# EAGLE library part AD5933_FIXED (library eric-custom)
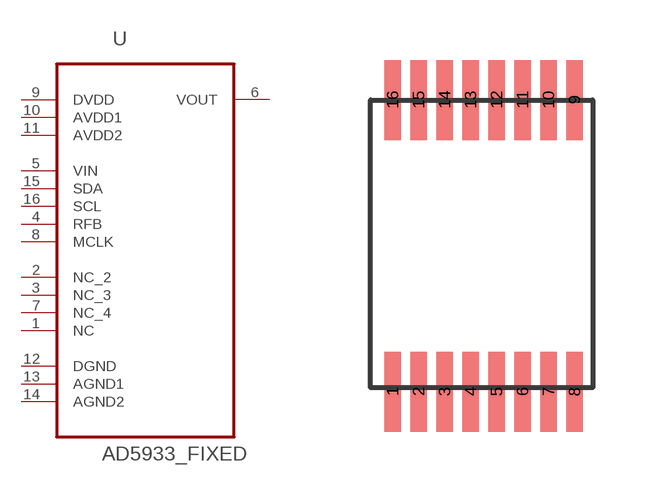
[diagram p15: symbol with the pads of SSOP16_WIDE; footprint SSOP16_WIDE]

Designator prefix -

## AD5933_FIXED  [SSOP16_WIDE]
1  NC  nc
2  NC_2  nc
3  NC_3  nc
4  RFB  in
5  VIN  in
6  VOUT  out
7  NC_4  nc
8  MCLK  in
9  DVDD  pwr
10  AVDD1  pwr
11  AVDD2  pwr
12  DGND  pas
13  AGND1  pas
14  AGND2  pas
15  SDA
16  SCL  in

## Footprint SSOP16_WIDE (pad centres in mm)
smd 0.42 x 2: 1 -2.3,-4; 2 -1.65,-4; 3 -1,-4; 4 -0.35,-4; 5 0.3,-4; 6 0.95,-4; 7 1.6,-4; 8 2.25,-4; 9 2.25,3.3; 10 1.6,3.3; 11 0.95,3.3; 12 0.3,3.3; 13 -0.35,3.3; 14 -1,3.3; 15 -1.65,3.3; 16 -2.3,3.3